# Altium integrated library M8TE.IntLib: 2 symbols
Pins are listed as number, name and electrical type; pins without a type are passive.

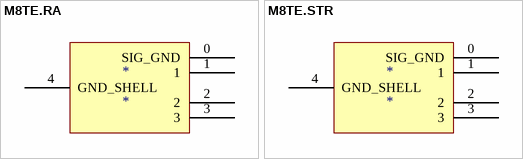
[diagram p0: symbols M8TE.RA to M8TE.STR]

## M8TE.RA
designator *
4 Pin M8 for DJI Referee Connector
footprint M8TE.RA-MALE
footprint M8TE.RA-FMLE
pins: 0 SIG_GND, 1, 2, 3, 4 GND_SHELL

## M8TE.STR
designator *
4 Pin M8 for DJI Referee Connector
footprint M8TE.STR-FMLE
footprint M8TE.STR-MALE
pins: 0 SIG_GND, 1, 2, 3, 4 GND_SHELL